# Altium schematic symbol library kmilo17pet-TI_BattMgmt.SchLib: 950 symbols (part 19 of 60)
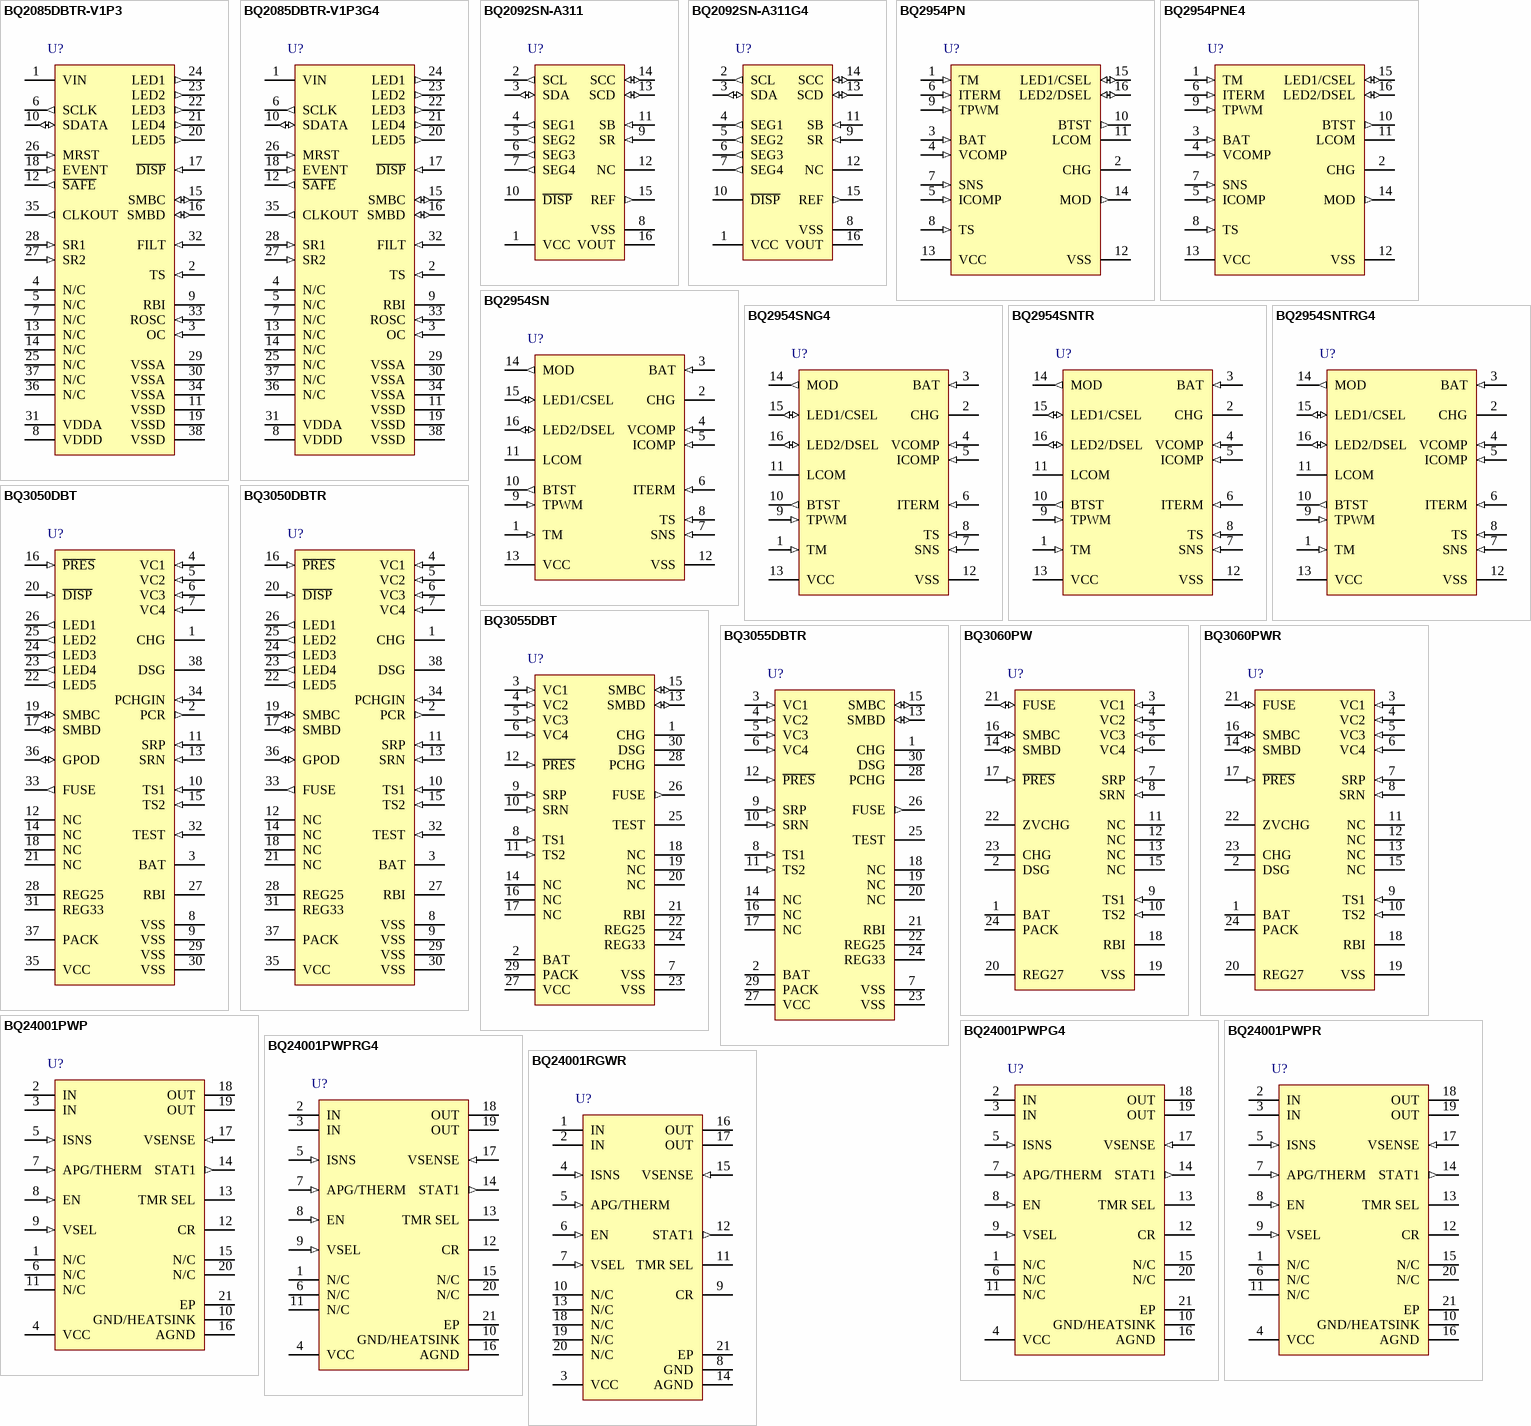
[diagram p52: symbols BQ2085DBTR-V1P3 to BQ24001RGWR]

## BQ24001PWPG4
designator U?
Linear 1 Cell Li-Ion Battery Charger with Integrated FET, One LED, 4.5 V, 0 to 70 degC, 20-pin HTSSOP (PWP), Green (RoHS & no Sb/Br); PartNumber: BQ24001PWPG4; Manufacturer: Texas Instruments; Lead Acid: N; Li-Ion: Y; SubFamily: Battery Charge Management; Vin(Min)(V): 4.5; DatasheetVersion: SLUS462E; PackageVersion: revI, May-2011; PackageReference: PWP20-3005X2005TP; PackageDescription: 20-Pin PowerPAD Plastic Small Outline 6.5 x 4.4 mm Body ,0.65 mm Pitch, Exposed Pad; Supplier 1: Digi-Key; Supplier Part Number 1: BQ24001PWPG4-ND; Supplier Part Number 3: 595-BQ24001PWPG4; Eco-Plan: Green (RoHS & no Sb/Br); Li-Polymer: Y; NiCd: N; NiMH: N; Over Voltage Protection: N; Mounting Technology: Surface Mount; Code_JEDEC: MO-153; ComponentLink1Description: Datasheet; ComponentLink1URL: http://www.ti.com/general/docs/lit/getliterature.tsp?genericPartNumber=BQ24001&fileType=pdf
footprint PWP20-3005X2005TP_N (TSOP, 20-Leads, Body 6.5x4.4mm, Pitch 0.65mm, Thermal Pad 3.7x2.4 mm, IPC Medium Density)
footprint PWP20-3005X2005TP_L (TSOP, 20-Leads, Body 6.5x4.4mm, Pitch 0.65mm, Thermal Pad 3.7x2.4 mm, IPC High Density)
footprint PWP20-3005X2005TP_M (TSOP, 20-Leads, Body 6.5x4.4mm, Pitch 0.65mm, Thermal Pad 3.7x2.4 mm, IPC Low Density)
pins: 1 N/C "No connect. These pins must be left floating. Pin 15 is N/C on bq24001PWP only. Pin 13 is N/C on bq24001RGW only.", 2 IN (power) "Input voltage. This input provides the charging voltage for the battery.", 3 IN (power) "Input voltage. This input provides the charging voltage for the battery.", 4 VCC (power) "Supply voltage", 5 ISNS (in) "Current sense input", 6 N/C "No connect. These pins must be left floating. Pin 15 is N/C on bq24001PWP only. Pin 13 is N/C on bq24001RGW only.", 7 APG/THERM (in) "Adapter power good input/thermistor sense input", 8 EN (in) "Charge-enable input. Active-high enable input with internal pull down. Low-current stand-by mode active when EN is low.", 9 VSEL (in) "4.1 V or 4.2 V charge regulation selection input", 10 GND/HEATSINK (power) "Ground pin; connect to PowerPAD heat-sink layout pattern.", 11 N/C "No connect. These pins must be left floating. Pin 15 is N/C on bq24001PWP only. Pin 13 is N/C on bq24001RGW only.", 12 CR "Internal regulator bypass capacitor", 13 TMR SEL "Charge timer selection input", 14 STAT1 (out) "Status display output 1", 15 N/C "No connect. These pins must be left floating. Pin 15 is N/C on bq24001PWP only. Pin 13 is N/C on bq24001RGW only.", 16 AGND (power) "Ground pin; connect close to the negative battery terminal.", 17 VSENSE (in) "Battery voltage sense input", 18 OUT (power) "Charge current output", 19 OUT (power) "Charge current output", 20 N/C "No connect. These pins must be left floating. Pin 15 is N/C on bq24001PWP only. Pin 13 is N/C on bq24001RGW only.", 21 EP (power) "Exposed pad"

## BQ24001PWPR
designator U?
Linear 1 Cell Li-Ion Battery Charger with Integrated FET, One LED, 4.5 V, 0 to 70 degC, 20-pin HTSSOP (PWP), Green (RoHS & no Sb/Br); PartNumber: BQ24001PWPR; Manufacturer: Texas Instruments; Lead Acid: N; Li-Ion: Y; SubFamily: Battery Charge Management; Vin(Min)(V): 4.5; DatasheetVersion: SLUS462E; PackageVersion: revI, May-2011; PackageReference: PWP20-3005X2005TP; PackageDescription: 20-Pin PowerPAD Plastic Small Outline 6.5 x 4.4 mm Body ,0.65 mm Pitch, Exposed Pad; Supplier 1: Digi-Key; Supplier Part Number 1: BQ24001PWPR-ND; Supplier Part Number 3: 595-BQ24001PWPR; Eco-Plan: Green (RoHS & no Sb/Br); Li-Polymer: Y; NiCd: N; NiMH: N; Over Voltage Protection: N; Mounting Technology: Surface Mount; Code_JEDEC: MO-153; ComponentLink1Description: Datasheet; ComponentLink1URL: http://www.ti.com/general/docs/lit/getliterature.tsp?genericPartNumber=BQ24001&fileType=pdf
footprint PWP20-3005X2005TP_N (TSOP, 20-Leads, Body 6.5x4.4mm, Pitch 0.65mm, Thermal Pad 3.7x2.4 mm, IPC Medium Density)
footprint PWP20-3005X2005TP_L (TSOP, 20-Leads, Body 6.5x4.4mm, Pitch 0.65mm, Thermal Pad 3.7x2.4 mm, IPC High Density)
footprint PWP20-3005X2005TP_M (TSOP, 20-Leads, Body 6.5x4.4mm, Pitch 0.65mm, Thermal Pad 3.7x2.4 mm, IPC Low Density)
pins: 1 N/C "No connect. These pins must be left floating. Pin 15 is N/C on bq24001PWP only. Pin 13 is N/C on bq24001RGW only.", 2 IN (power) "Input voltage. This input provides the charging voltage for the battery.", 3 IN (power) "Input voltage. This input provides the charging voltage for the battery.", 4 VCC (power) "Supply voltage", 5 ISNS (in) "Current sense input", 6 N/C "No connect. These pins must be left floating. Pin 15 is N/C on bq24001PWP only. Pin 13 is N/C on bq24001RGW only.", 7 APG/THERM (in) "Adapter power good input/thermistor sense input", 8 EN (in) "Charge-enable input. Active-high enable input with internal pull down. Low-current stand-by mode active when EN is low.", 9 VSEL (in) "4.1 V or 4.2 V charge regulation selection input", 10 GND/HEATSINK (power) "Ground pin; connect to PowerPAD heat-sink layout pattern.", 11 N/C "No connect. These pins must be left floating. Pin 15 is N/C on bq24001PWP only. Pin 13 is N/C on bq24001RGW only.", 12 CR "Internal regulator bypass capacitor", 13 TMR SEL "Charge timer selection input", 14 STAT1 (out) "Status display output 1", 15 N/C "No connect. These pins must be left floating. Pin 15 is N/C on bq24001PWP only. Pin 13 is N/C on bq24001RGW only.", 16 AGND (power) "Ground pin; connect close to the negative battery terminal.", 17 VSENSE (in) "Battery voltage sense input", 18 OUT (power) "Charge current output", 19 OUT (power) "Charge current output", 20 N/C "No connect. These pins must be left floating. Pin 15 is N/C on bq24001PWP only. Pin 13 is N/C on bq24001RGW only.", 21 EP (power) "Exposed pad"

## BQ24001PWPRG4
designator U?
Linear 1 Cell Li-Ion Battery Charger with Integrated FET, One LED, 4.5 V, 0 to 70 degC, 20-pin HTSSOP (PWP), Green (RoHS & no Sb/Br); PartNumber: BQ24001PWPRG4; Manufacturer: Texas Instruments; Lead Acid: N; Li-Ion: Y; SubFamily: Battery Charge Management; Vin(Min)(V): 4.5; DatasheetVersion: SLUS462E; PackageVersion: revI, May-2011; PackageReference: PWP20-3005X2005TP; PackageDescription: 20-Pin PowerPAD Plastic Small Outline 6.5 x 4.4 mm Body ,0.65 mm Pitch, Exposed Pad; Supplier 1: Digi-Key; Supplier Part Number 1: BQ24001PWPRG4-ND; Supplier Part Number 3: 595-BQ24001PWPRG4; Eco-Plan: Green (RoHS & no Sb/Br); Li-Polymer: Y; NiCd: N; NiMH: N; Over Voltage Protection: N; Mounting Technology: Surface Mount; Code_JEDEC: MO-153; ComponentLink1Description: Datasheet; ComponentLink1URL: http://www.ti.com/general/docs/lit/getliterature.tsp?genericPartNumber=BQ24001&fileType=pdf
footprint PWP20-3005X2005TP_N (TSOP, 20-Leads, Body 6.5x4.4mm, Pitch 0.65mm, Thermal Pad 3.7x2.4 mm, IPC Medium Density)
footprint PWP20-3005X2005TP_L (TSOP, 20-Leads, Body 6.5x4.4mm, Pitch 0.65mm, Thermal Pad 3.7x2.4 mm, IPC High Density)
footprint PWP20-3005X2005TP_M (TSOP, 20-Leads, Body 6.5x4.4mm, Pitch 0.65mm, Thermal Pad 3.7x2.4 mm, IPC Low Density)
pins: 1 N/C "No connect. These pins must be left floating. Pin 15 is N/C on bq24001PWP only. Pin 13 is N/C on bq24001RGW only.", 2 IN (power) "Input voltage. This input provides the charging voltage for the battery.", 3 IN (power) "Input voltage. This input provides the charging voltage for the battery.", 4 VCC (power) "Supply voltage", 5 ISNS (in) "Current sense input", 6 N/C "No connect. These pins must be left floating. Pin 15 is N/C on bq24001PWP only. Pin 13 is N/C on bq24001RGW only.", 7 APG/THERM (in) "Adapter power good input/thermistor sense input", 8 EN (in) "Charge-enable input. Active-high enable input with internal pull down. Low-current stand-by mode active when EN is low.", 9 VSEL (in) "4.1 V or 4.2 V charge regulation selection input", 10 GND/HEATSINK (power) "Ground pin; connect to PowerPAD heat-sink layout pattern.", 11 N/C "No connect. These pins must be left floating. Pin 15 is N/C on bq24001PWP only. Pin 13 is N/C on bq24001RGW only.", 12 CR "Internal regulator bypass capacitor", 13 TMR SEL "Charge timer selection input", 14 STAT1 (out) "Status display output 1", 15 N/C "No connect. These pins must be left floating. Pin 15 is N/C on bq24001PWP only. Pin 13 is N/C on bq24001RGW only.", 16 AGND (power) "Ground pin; connect close to the negative battery terminal.", 17 VSENSE (in) "Battery voltage sense input", 18 OUT (power) "Charge current output", 19 OUT (power) "Charge current output", 20 N/C "No connect. These pins must be left floating. Pin 15 is N/C on bq24001PWP only. Pin 13 is N/C on bq24001RGW only.", 21 EP (power) "Exposed pad"

## BQ24001RGWR
designator U?
Linear 1 Cell Li-Ion Battery Charger with Integrated FET, One LED, 4.5 V, -40 to 70 degC, 20-pin VQFN (RGW), Green (RoHS & no Sb/Br); PartNumber: BQ24001RGWR; Manufacturer: Texas Instruments; Lead Acid: N; Li-Ion: Y; SubFamily: Battery Charge Management; Vin(Min)(V): 4.5; DatasheetVersion: SLUS462E; PackageVersion: revC, Jul-2011; PackageReference: RGW20-3150X3150TP; PackageDescription: 20-Pin Plastic Quad Flat No-Lead, 5 x 5 mm Body, 0.65 mm Pitch, 3.15 x 3.15 mm Exposed Pad; Supplier 1: Digi-Key; Supplier Part Number 1: 296-12968-2-ND; Supplier Part Number 3: 296-12968-6-ND; Eco-Plan: Green (RoHS & no Sb/Br); Li-Polymer: Y; NiCd: N; NiMH: N; Over Voltage Protection: N; Mounting Technology: Surface Mount; Code_JEDEC: MO-220; ComponentLink1Description: Datasheet; ComponentLink1URL: http://www.ti.com/general/docs/lit/getliterature.tsp?genericPartNumber=BQ24001&fileType=pdf
footprint RGW20-3150X3150TP (QFN, 20-Leads, Body 5x5mm, Pitch 0.65mm, Thermal Pad 3.15x3.15mm, TI Recommended)
pins: 1 IN (power) "Input voltage. This input provides the charging voltage for the battery.", 2 IN (power) "Input voltage. This input provides the charging voltage for the battery.", 3 VCC (power) "Supply voltage", 4 ISNS (in) "Current sense input", 5 APG/THERM (in) "Adapter power good input/thermistor sense input", 6 EN (in) "Charge-enable input. Active-high enable input with internal pull down. Low-current stand-by mode active when EN is low.", 7 VSEL (in) "4.1 V or 4.2 V charge regulation selection input", 8 GND (power) "Ground pin; connect to PowerPAD heat-sink layout pattern.", 9 CR "Internal regulator bypass capacitor", 10 N/C "No connect. These pins must be left floating.", 11 TMR SEL "Charge timer selection input", 12 STAT1 (out) "Status display output 1", 13 N/C "No connect. These pins must be left floating. Pin 13 is N/C on bq24001RGW only.", 14 AGND (power) "Ground pin; connect close to the negative battery terminal.", 15 VSENSE (in) "Battery voltage sense input", 16 OUT (power) "Charge current output", 17 OUT (power) "Charge current output", 18 N/C "No connect. These pins must be left floating.", 19 N/C "No connect. These pins must be left floating.", 20 N/C "No connect. These pins must be left floating.", 21 EP (power) "Thermal Pad"

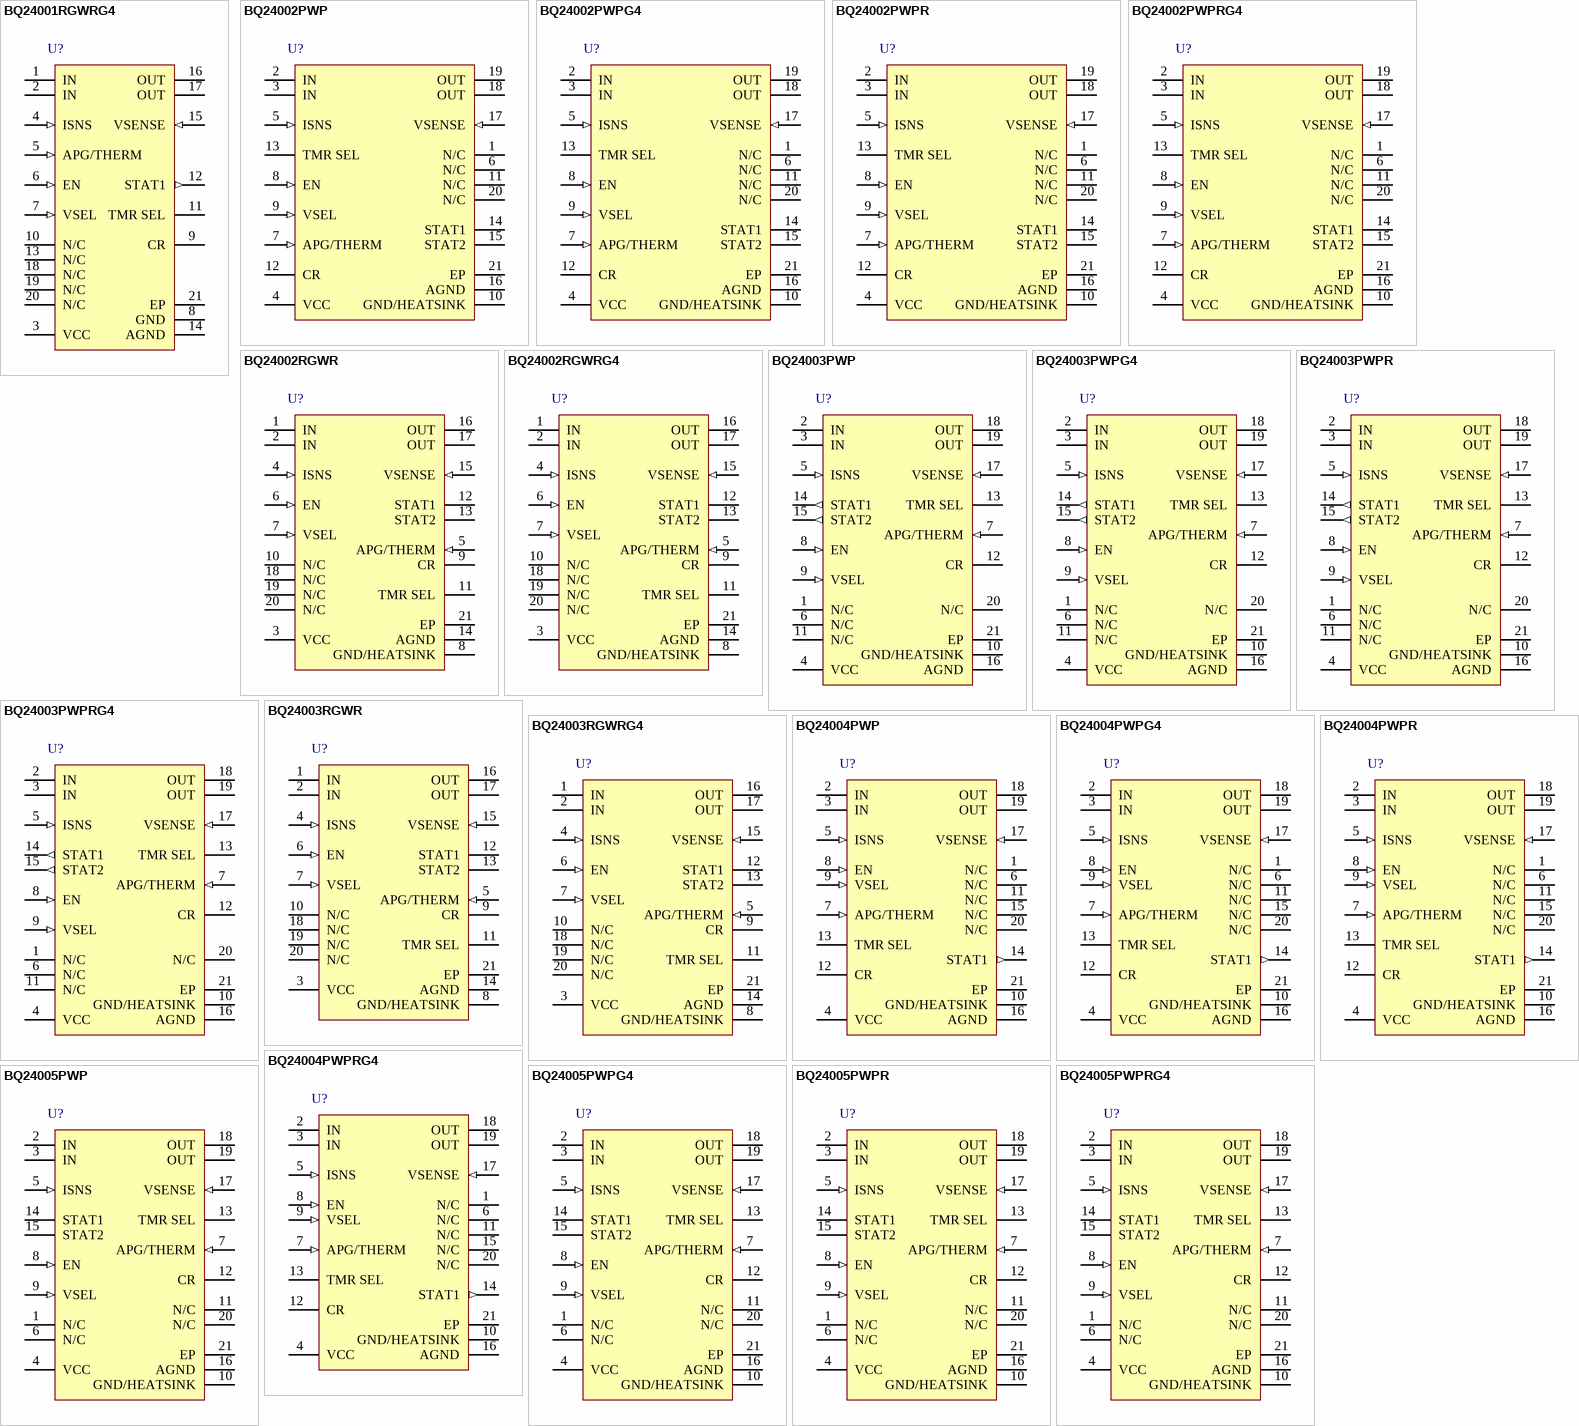
[diagram p11: symbols BQ24001RGWRG4 to BQ24005PWPRG4]

## BQ24001RGWRG4
designator U?
Linear 1 Cell Li-Ion Battery Charger with Integrated FET, One LED, 4.5 V, -40 to 70 degC, 20-pin VQFN (RGW), Green (RoHS & no Sb/Br); PartNumber: BQ24001RGWRG4; Manufacturer: Texas Instruments; Lead Acid: N; Li-Ion: Y; SubFamily: Battery Charge Management; Vin(Min)(V): 4.5; DatasheetVersion: SLUS462E; PackageVersion: revC, Jul-2011; PackageReference: RGW20-3150X3150TP; PackageDescription: 20-Pin Plastic Quad Flat No-Lead, 5 x 5 mm Body, 0.65 mm Pitch, 3.15 x 3.15 mm Exposed Pad; Supplier 1: Digi-Key; Supplier Part Number 1: BQ24001RGWRG4-ND; Supplier Part Number 3: 595-BQ24001RGWRG4; Eco-Plan: Green (RoHS & no Sb/Br); Li-Polymer: Y; NiCd: N; NiMH: N; Over Voltage Protection: N; Mounting Technology: Surface Mount; Code_JEDEC: MO-220; ComponentLink1Description: Datasheet; ComponentLink1URL: http://www.ti.com/general/docs/lit/getliterature.tsp?genericPartNumber=BQ24001&fileType=pdf
footprint RGW20-3150X3150TP (QFN, 20-Leads, Body 5x5mm, Pitch 0.65mm, Thermal Pad 3.15x3.15mm, TI Recommended)
pins: 1 IN (power) "Input voltage. This input provides the charging voltage for the battery.", 2 IN (power) "Input voltage. This input provides the charging voltage for the battery.", 3 VCC (power) "Supply voltage", 4 ISNS (in) "Current sense input", 5 APG/THERM (in) "Adapter power good input/thermistor sense input", 6 EN (in) "Charge-enable input. Active-high enable input with internal pull down. Low-current stand-by mode active when EN is low.", 7 VSEL (in) "4.1 V or 4.2 V charge regulation selection input", 8 GND (power) "Ground pin; connect to PowerPAD heat-sink layout pattern.", 9 CR "Internal regulator bypass capacitor", 10 N/C "No connect. These pins must be left floating.", 11 TMR SEL "Charge timer selection input", 12 STAT1 (out) "Status display output 1", 13 N/C "No connect. These pins must be left floating. Pin 13 is N/C on bq24001RGW only.", 14 AGND (power) "Ground pin; connect close to the negative battery terminal.", 15 VSENSE (in) "Battery voltage sense input", 16 OUT (power) "Charge current output", 17 OUT (power) "Charge current output", 18 N/C "No connect. These pins must be left floating.", 19 N/C "No connect. These pins must be left floating.", 20 N/C "No connect. These pins must be left floating.", 21 EP (power) "Thermal Pad"

## BQ24002PWP
designator U?
Linear 1-Cell Li-Ion Battery Charger with Integrated FET, Two LED, 4.5 V, -20 to 70 degC, 20-pin HTSSOP (PWP), Green (RoHS & no Sb/Br); PartNumber: BQ24002PWP; Manufacturer: Texas Instruments; Lead Acid: N; Li-Ion: Y; SubFamily: Battery Charge Management; Vin(Min)(V): 4.5; DatasheetVersion: SLUS462E; PackageVersion: revI, May-2011; PackageReference: PWP20-3005X2005TP; PackageDescription: 20-Pin PowerPAD Plastic Small Outline 6.5 x 4.4 mm Body ,0.65 mm Pitch, Exposed Pad; Supplier 1: Digi-Key; Supplier Part Number 1: 296-9379-5-ND; Supplier Part Number 3: 595-BQ24002PWP; Eco-Plan: Green (RoHS & no Sb/Br); Li-Polymer: Y; NiCd: N; NiMH: N; Over Voltage Protection: N; Mounting Technology: Surface Mount; Code_JEDEC: MO-153; ComponentLink1Description: Datasheet; ComponentLink1URL: http://www.ti.com/general/docs/lit/getliterature.tsp?genericPartNumber=BQ24002&fileType=pdf
footprint PWP20-3005X2005TP_N (TSOP, 20-Leads, Body 6.5x4.4mm, Pitch 0.65mm, Thermal Pad 3.7x2.4 mm, IPC Medium Density)
footprint PWP20-3005X2005TP_L (TSOP, 20-Leads, Body 6.5x4.4mm, Pitch 0.65mm, Thermal Pad 3.7x2.4 mm, IPC High Density)
footprint PWP20-3005X2005TP_M (TSOP, 20-Leads, Body 6.5x4.4mm, Pitch 0.65mm, Thermal Pad 3.7x2.4 mm, IPC Low Density)
pins: 1 N/C "No connect. These pins must be left floating.", 2 IN (power) "Input voltage. This input provides the charging voltage for the battery.", 3 IN (power) "Input voltage. This input provides the charging voltage for the battery.", 4 VCC (power) "Supply voltage", 5 ISNS (in) "Current sense input", 6 N/C "No connect. These pins must be left floating.", 7 APG/THERM (in) "Adapter power good input/thermistor sense input", 8 EN (in) "Charge-enable input. Active-high enable input with internal pull down. Low-current stand-by mode active when EN is low.", 9 VSEL (in) "4.1 V or 4.2 V charge regulation selection input", 10 GND/HEATSINK (power) "Ground pin; connect to PowerPAD heat-sink layout pattern", 11 N/C "No connect. These pins must be left floating.", 12 CR "Internal regulator bypass capacitor", 13 TMR SEL "Charge timer selection input", 14 STAT1 (oc) "Status display output 1", 15 STAT2 (oc) "Status display output 2 (for bq24002 and bq24003 only)", 16 AGND (power) "Ground pin; connect close to the negative battery terminal", 17 VSENSE (in) "Battery voltage sense input", 18 OUT (power) "Charge current output", 19 OUT (power) "Charge current output", 20 N/C "No connect. These pins must be left floating.", 21 EP (power) "Exposed Thermal Pad"

## BQ24002PWPG4
designator U?
Linear 1-Cell Li-Ion Battery Charger with Integrated FET, Two LED, 4.5 V, -20 to 70 degC, 20-pin HTSSOP (PWP), Green (RoHS & no Sb/Br); PartNumber: BQ24002PWPG4; Manufacturer: Texas Instruments; Lead Acid: N; Li-Ion: Y; SubFamily: Battery Charge Management; Vin(Min)(V): 4.5; DatasheetVersion: SLUS462E; PackageVersion: revI, May-2011; PackageReference: PWP20-3005X2005TP; PackageDescription: 20-Pin PowerPAD Plastic Small Outline 6.5 x 4.4 mm Body ,0.65 mm Pitch, Exposed Pad; Supplier 1: Digi-Key; Supplier Part Number 1: BQ24002PWPG4-ND; Supplier Part Number 3: 43K9061; Eco-Plan: Green (RoHS & no Sb/Br); Li-Polymer: Y; NiCd: N; NiMH: N; Over Voltage Protection: N; Mounting Technology: Surface Mount; Code_JEDEC: MO-153; ComponentLink1Description: Datasheet; ComponentLink1URL: http://www.ti.com/general/docs/lit/getliterature.tsp?genericPartNumber=BQ24002&fileType=pdf
footprint PWP20-3005X2005TP_N (TSOP, 20-Leads, Body 6.5x4.4mm, Pitch 0.65mm, Thermal Pad 3.7x2.4 mm, IPC Medium Density)
footprint PWP20-3005X2005TP_L (TSOP, 20-Leads, Body 6.5x4.4mm, Pitch 0.65mm, Thermal Pad 3.7x2.4 mm, IPC High Density)
footprint PWP20-3005X2005TP_M (TSOP, 20-Leads, Body 6.5x4.4mm, Pitch 0.65mm, Thermal Pad 3.7x2.4 mm, IPC Low Density)
pins: 1 N/C "No connect. These pins must be left floating.", 2 IN (power) "Input voltage. This input provides the charging voltage for the battery.", 3 IN (power) "Input voltage. This input provides the charging voltage for the battery.", 4 VCC (power) "Supply voltage", 5 ISNS (in) "Current sense input", 6 N/C "No connect. These pins must be left floating.", 7 APG/THERM (in) "Adapter power good input/thermistor sense input", 8 EN (in) "Charge-enable input. Active-high enable input with internal pull down. Low-current stand-by mode active when EN is low.", 9 VSEL (in) "4.1 V or 4.2 V charge regulation selection input", 10 GND/HEATSINK (power) "Ground pin; connect to PowerPAD heat-sink layout pattern", 11 N/C "No connect. These pins must be left floating.", 12 CR "Internal regulator bypass capacitor", 13 TMR SEL "Charge timer selection input", 14 STAT1 (oc) "Status display output 1", 15 STAT2 (oc) "Status display output 2 (for bq24002 and bq24003 only)", 16 AGND (power) "Ground pin; connect close to the negative battery terminal", 17 VSENSE (in) "Battery voltage sense input", 18 OUT (power) "Charge current output", 19 OUT (power) "Charge current output", 20 N/C "No connect. These pins must be left floating.", 21 EP (power) "Exposed Thermal Pad"

## BQ24002PWPR
designator U?
Linear 1-Cell Li-Ion Battery Charger with Integrated FET, Two LED, 4.5 V, -20 to 70 degC, 20-pin HTSSOP (PWP), Green (RoHS & no Sb/Br); PartNumber: BQ24002PWPR; Manufacturer: Texas Instruments; Lead Acid: N; Li-Ion: Y; SubFamily: Battery Charge Management; Vin(Min)(V): 4.5; DatasheetVersion: SLUS462E; PackageVersion: revI, May-2011; PackageReference: PWP20-3005X2005TP; PackageDescription: 20-Pin PowerPAD Plastic Small Outline 6.5 x 4.4 mm Body ,0.65 mm Pitch, Exposed Pad; Supplier 1: Digi-Key; Supplier Part Number 1: BQ24002PWPR-ND; Supplier Part Number 3: 595-BQ24002PWPR; Eco-Plan: Green (RoHS & no Sb/Br); Li-Polymer: Y; NiCd: N; NiMH: N; Over Voltage Protection: N; Mounting Technology: Surface Mount; Code_JEDEC: MO-153; ComponentLink1Description: Datasheet; ComponentLink1URL: http://www.ti.com/general/docs/lit/getliterature.tsp?genericPartNumber=BQ24002&fileType=pdf
footprint PWP20-3005X2005TP_N (TSOP, 20-Leads, Body 6.5x4.4mm, Pitch 0.65mm, Thermal Pad 3.7x2.4 mm, IPC Medium Density)
footprint PWP20-3005X2005TP_L (TSOP, 20-Leads, Body 6.5x4.4mm, Pitch 0.65mm, Thermal Pad 3.7x2.4 mm, IPC High Density)
footprint PWP20-3005X2005TP_M (TSOP, 20-Leads, Body 6.5x4.4mm, Pitch 0.65mm, Thermal Pad 3.7x2.4 mm, IPC Low Density)
pins: 1 N/C "No connect. These pins must be left floating.", 2 IN (power) "Input voltage. This input provides the charging voltage for the battery.", 3 IN (power) "Input voltage. This input provides the charging voltage for the battery.", 4 VCC (power) "Supply voltage", 5 ISNS (in) "Current sense input", 6 N/C "No connect. These pins must be left floating.", 7 APG/THERM (in) "Adapter power good input/thermistor sense input", 8 EN (in) "Charge-enable input. Active-high enable input with internal pull down. Low-current stand-by mode active when EN is low.", 9 VSEL (in) "4.1 V or 4.2 V charge regulation selection input", 10 GND/HEATSINK (power) "Ground pin; connect to PowerPAD heat-sink layout pattern", 11 N/C "No connect. These pins must be left floating.", 12 CR "Internal regulator bypass capacitor", 13 TMR SEL "Charge timer selection input", 14 STAT1 (oc) "Status display output 1", 15 STAT2 (oc) "Status display output 2 (for bq24002 and bq24003 only)", 16 AGND (power) "Ground pin; connect close to the negative battery terminal", 17 VSENSE (in) "Battery voltage sense input", 18 OUT (power) "Charge current output", 19 OUT (power) "Charge current output", 20 N/C "No connect. These pins must be left floating.", 21 EP (power) "Exposed Thermal Pad"

## BQ24002PWPRG4
designator U?
Linear 1-Cell Li-Ion Battery Charger with Integrated FET, Two LED, 4.5 V, -20 to 70 degC, 20-pin HTSSOP (PWP), Green (RoHS & no Sb/Br); PartNumber: BQ24002PWPRG4; Manufacturer: Texas Instruments; Lead Acid: N; Li-Ion: Y; SubFamily: Battery Charge Management; Vin(Min)(V): 4.5; DatasheetVersion: SLUS462E; PackageVersion: revI, May-2011; PackageReference: PWP20-3005X2005TP; PackageDescription: 20-Pin PowerPAD Plastic Small Outline 6.5 x 4.4 mm Body ,0.65 mm Pitch, Exposed Pad; Supplier 1: Digi-Key; Supplier Part Number 1: BQ24002PWPRG4-ND; Supplier Part Number 3: 595-BQ24002PWPRG4; Eco-Plan: Green (RoHS & no Sb/Br); Li-Polymer: Y; NiCd: N; NiMH: N; Over Voltage Protection: N; Mounting Technology: Surface Mount; Code_JEDEC: MO-153; ComponentLink1Description: Datasheet; ComponentLink1URL: http://www.ti.com/general/docs/lit/getliterature.tsp?genericPartNumber=BQ24002&fileType=pdf
footprint PWP20-3005X2005TP_N (TSOP, 20-Leads, Body 6.5x4.4mm, Pitch 0.65mm, Thermal Pad 3.7x2.4 mm, IPC Medium Density)
footprint PWP20-3005X2005TP_L (TSOP, 20-Leads, Body 6.5x4.4mm, Pitch 0.65mm, Thermal Pad 3.7x2.4 mm, IPC High Density)
footprint PWP20-3005X2005TP_M (TSOP, 20-Leads, Body 6.5x4.4mm, Pitch 0.65mm, Thermal Pad 3.7x2.4 mm, IPC Low Density)
pins: 1 N/C "No connect. These pins must be left floating.", 2 IN (power) "Input voltage. This input provides the charging voltage for the battery.", 3 IN (power) "Input voltage. This input provides the charging voltage for the battery.", 4 VCC (power) "Supply voltage", 5 ISNS (in) "Current sense input", 6 N/C "No connect. These pins must be left floating.", 7 APG/THERM (in) "Adapter power good input/thermistor sense input", 8 EN (in) "Charge-enable input. Active-high enable input with internal pull down. Low-current stand-by mode active when EN is low.", 9 VSEL (in) "4.1 V or 4.2 V charge regulation selection input", 10 GND/HEATSINK (power) "Ground pin; connect to PowerPAD heat-sink layout pattern", 11 N/C "No connect. These pins must be left floating.", 12 CR "Internal regulator bypass capacitor", 13 TMR SEL "Charge timer selection input", 14 STAT1 (oc) "Status display output 1", 15 STAT2 (oc) "Status display output 2 (for bq24002 and bq24003 only)", 16 AGND (power) "Ground pin; connect close to the negative battery terminal", 17 VSENSE (in) "Battery voltage sense input", 18 OUT (power) "Charge current output", 19 OUT (power) "Charge current output", 20 N/C "No connect. These pins must be left floating.", 21 EP (power) "Exposed Thermal Pad"

## BQ24002RGWR
designator U?
Linear 1-Cell Li-Ion Battery Charger with Integrated FET, Two LED, 4.5 V, -40 to 70 degC, 20-pin VQFN (RGW), Green (RoHS & no Sb/Br); PartNumber: BQ24002RGWR; Manufacturer: Texas Instruments; Lead Acid: N; Li-Ion: Y; SubFamily: Battery Charge Management; Vin(Min)(V): 4.5; DatasheetVersion: SLUS462E; PackageVersion: revI, May-2011; PackageReference: PWP20-3005X2005TP; PackageDescription: 20-Pin PowerPAD Plastic Small Outline 6.5 x 4.4 mm Body ,0.65 mm Pitch, Exposed Pad; Supplier 1: Digi-Key; Supplier Part Number 1: 296-12969-2-ND; Supplier Part Number 3: 296-12969-6-ND; Eco-Plan: Green (RoHS & no Sb/Br); Li-Polymer: Y; NiCd: N; NiMH: N; Over Voltage Protection: N; Mounting Technology: Surface Mount; Code_JEDEC: MO-153; ComponentLink1Description: Datasheet; ComponentLink1URL: http://www.ti.com/general/docs/lit/getliterature.tsp?genericPartNumber=BQ24002&fileType=pdf
footprint PWP20-3005X2005TP_N (TSOP, 20-Leads, Body 6.5x4.4mm, Pitch 0.65mm, Thermal Pad 3.7x2.4 mm, IPC Medium Density)
footprint PWP20-3005X2005TP_L (TSOP, 20-Leads, Body 6.5x4.4mm, Pitch 0.65mm, Thermal Pad 3.7x2.4 mm, IPC High Density)
footprint PWP20-3005X2005TP_M (TSOP, 20-Leads, Body 6.5x4.4mm, Pitch 0.65mm, Thermal Pad 3.7x2.4 mm, IPC Low Density)
pins: 1 IN (power) "Input voltage. This input provides the charging voltage for the battery", 2 IN (power) "Input voltage. This input provides the charging voltage for the battery", 3 VCC (power) "Supply voltage", 4 ISNS (in) "Current sense input", 5 APG/THERM (in) "Adapter power good input/thermistor sense input", 6 EN (in) "Charge-enable input. Active-high enable input with internal pull down. Low-current stand-by mode active when EN is low", 7 VSEL (in) "4.1 V or 4.2 V charge regulation selection input", 8 GND/HEATSINK (power) "Ground pin; connect to PowerPAD heat-sink layout pattern", 9 CR "Internal regulator bypass capacitor", 10 N/C "No connect. These pins must be left floating. Pin 15 is N/C on bq24001PWP only. Pin 13 is N/C on bq24001RGW only", 11 TMR SEL "Charge timer selection input", 12 STAT1 (oc) "Status display output 1", 13 STAT2 (oc) "Status display output 2 (for bq24002 and bq24003 only)", 14 AGND (power) "Ground pin; connect close to the negative battery terminal", 15 VSENSE (in) "Battery voltage sense input", 16 OUT (power) "Charge current output", 17 OUT (power) "Charge current output", 18 N/C "No connect. These pins must be left floating. Pin 15 is N/C on bq24001PWP only. Pin 13 is N/C on bq24001RGW only", 19 N/C "No connect. These pins must be left floating. Pin 15 is N/C on bq24001PWP only. Pin 13 is N/C on bq24001RGW only", 20 N/C "No connect. These pins must be left floating. Pin 15 is N/C on bq24001PWP only. Pin 13 is N/C on bq24001RGW only", 21 EP (power) "Exposed thermal pad"

## BQ24002RGWRG4
designator U?
Linear 1-Cell Li-Ion Battery Charger with Integrated FET, Two LED, 4.5 V, -40 to 70 degC, 20-pin VQFN (RGW), Green (RoHS & no Sb/Br); PartNumber: BQ24002RGWRG4; Manufacturer: Texas Instruments; Lead Acid: N; Li-Ion: Y; SubFamily: Battery Charge Management; Vin(Min)(V): 4.5; DatasheetVersion: SLUS462E; PackageVersion: revC, Jul-2011; PackageReference: RGW20-3150X3150TP; PackageDescription: 20-Pin Plastic Quad Flat No-Lead, 5 x 5 mm Body, 0.65 mm Pitch, 3.15 x 3.15 mm Exposed Pad; Supplier 1: Digi-Key; Supplier Part Number 1: BQ24002RGWRG4-ND; Supplier Part Number 3: 595-BQ24002RGWRG4; Eco-Plan: Green (RoHS & no Sb/Br); Li-Polymer: Y; NiCd: N; NiMH: N; Over Voltage Protection: N; Mounting Technology: Surface Mount; Code_JEDEC: MO-220; ComponentLink1Description: Datasheet; ComponentLink1URL: http://www.ti.com/general/docs/lit/getliterature.tsp?genericPartNumber=BQ24002&fileType=pdf
footprint RGW20-3150X3150TP (QFN, 20-Leads, Body 5x5mm, Pitch 0.65mm, Thermal Pad 3.15x3.15mm, TI Recommended)
pins: 1 IN (power) "Input voltage. This input provides the charging voltage for the battery", 2 IN (power) "Input voltage. This input provides the charging voltage for the battery", 3 VCC (power) "Supply voltage", 4 ISNS (in) "Current sense input", 5 APG/THERM (in) "Adapter power good input/thermistor sense input", 6 EN (in) "Charge-enable input. Active-high enable input with internal pull down. Low-current stand-by mode active when EN is low", 7 VSEL (in) "4.1 V or 4.2 V charge regulation selection input", 8 GND/HEATSINK (power) "Ground pin; connect to PowerPAD heat-sink layout pattern", 9 CR "Internal regulator bypass capacitor", 10 N/C "No connect. These pins must be left floating. Pin 15 is N/C on bq24001PWP only. Pin 13 is N/C on bq24001RGW only", 11 TMR SEL "Charge timer selection input", 12 STAT1 (oc) "Status display output 1", 13 STAT2 (oc) "Status display output 2 (for bq24002 and bq24003 only)", 14 AGND (power) "Ground pin; connect close to the negative battery terminal", 15 VSENSE (in) "Battery voltage sense input", 16 OUT (power) "Charge current output", 17 OUT (power) "Charge current output", 18 N/C "No connect. These pins must be left floating. Pin 15 is N/C on bq24001PWP only. Pin 13 is N/C on bq24001RGW only", 19 N/C "No connect. These pins must be left floating. Pin 15 is N/C on bq24001PWP only. Pin 13 is N/C on bq24001RGW only", 20 N/C "No connect. These pins must be left floating. Pin 15 is N/C on bq24001PWP only. Pin 13 is N/C on bq24001RGW only", 21 EP (power) "Exposed thermal pad"

## BQ24003PWP
designator U?
Linear 1-Cell Li-Ion Battery Charger with Integrated FET, Bi-Color LED, 4.5 V, 0 to 70 degC, 20-pin HTSSOP (PWP), Green (RoHS & no Sb/Br); PartNumber: BQ24003PWP; Manufacturer: Texas Instruments; Lead Acid: N; Li-Ion: Y; SubFamily: Battery Charge Management; Vin(Min)(V): 4.5; DatasheetVersion: SLUS462E; PackageVersion: revI, May-2011; PackageReference: PWP20-3005X2005TP; PackageDescription: 20-Pin PowerPAD Plastic Small Outline 6.5 x 4.4 mm Body ,0.65 mm Pitch, Exposed Pad; Supplier 1: Digi-Key; Supplier Part Number 1: 296-9380-5-ND; Supplier Part Number 3: 595-BQ24003PWP; Eco-Plan: Green (RoHS & no Sb/Br); Li-Polymer: Y; NiCd: N; NiMH: N; Over Voltage Protection: N; Mounting Technology: Surface Mount; Code_JEDEC: MO-153; ComponentLink1Description: Datasheet; ComponentLink1URL: http://www.ti.com/general/docs/lit/getliterature.tsp?genericPartNumber=BQ24003&fileType=pdf
footprint PWP20-3005X2005TP_N (TSOP, 20-Leads, Body 6.5x4.4mm, Pitch 0.65mm, Thermal Pad 3.7x2.4 mm, IPC Medium Density)
footprint PWP20-3005X2005TP_L (TSOP, 20-Leads, Body 6.5x4.4mm, Pitch 0.65mm, Thermal Pad 3.7x2.4 mm, IPC High Density)
footprint PWP20-3005X2005TP_M (TSOP, 20-Leads, Body 6.5x4.4mm, Pitch 0.65mm, Thermal Pad 3.7x2.4 mm, IPC Low Density)
pins: 1 N/C "No connect. These pins must be left floating. Pin 15 is N/C on bq24001PWP only. Pin 13 is N/C on bq24001RGW only.", 2 IN (power) "Input voltage. This input provides the charging voltage for the battery.", 3 IN (power) "Input voltage. This input provides the charging voltage for the battery.", 4 VCC (power) "Supply voltage", 5 ISNS (in) "Current sense input", 6 N/C "No connect. These pins must be left floating. Pin 15 is N/C on bq24001PWP only. Pin 13 is N/C on bq24001RGW only.", 7 APG/THERM (in) "Adapter power good input/thermistor sense input", 8 EN (in) "Charge-enable input. Active-high enable input with internal pull down. Low-current stand-by mode active when EN is low.", 9 VSEL (in) "4.1 V or 4.2 V charge regulation selection input", 10 GND/HEATSINK (power) "Ground pin; connect to PowerPAD heat-sink layout pattern.", 11 N/C "No connect. These pins must be left floating. Pin 15 is N/C on bq24001PWP only. Pin 13 is N/C on bq24001RGW only.", 12 CR "Internal regulator bypass capacitor", 13 TMR SEL "Charge timer selection input", 14 STAT1 (out) "Status display output 1", 15 STAT2 (out) "Status display output 2 (for bq24002 and bq24003 only)", 16 AGND (power) "Ground pin; connect close to the negative battery terminal.", 17 VSENSE (in) "Battery voltage sense input", 18 OUT (power) "Charge current output", 19 OUT (power) "Charge current output", 20 N/C "No connect. These pins must be left floating. Pin 15 is N/C on bq24001PWP only. Pin 13 is N/C on bq24001RGW only.", 21 EP (power) "Exposed pad"

## BQ24003PWPG4
designator U?
Linear 1-Cell Li-Ion Battery Charger with Integrated FET, Bi-Color LED, 4.5 V, 0 to 70 degC, 20-pin HTSSOP (PWP), Green (RoHS & no Sb/Br); PartNumber: BQ24003PWPG4; Manufacturer: Texas Instruments; Lead Acid: N; Li-Ion: Y; SubFamily: Battery Charge Management; Vin(Min)(V): 4.5; DatasheetVersion: SLUS462E; PackageVersion: revI, May-2011; PackageReference: PWP20-3005X2005TP; PackageDescription: 20-Pin PowerPAD Plastic Small Outline 6.5 x 4.4 mm Body ,0.65 mm Pitch, Exposed Pad; Supplier 1: Digi-Key; Supplier Part Number 1: BQ24003PWPG4-ND; Supplier Part Number 3: 595-BQ24003PWPG4; Eco-Plan: Green (RoHS & no Sb/Br); Li-Polymer: Y; NiCd: N; NiMH: N; Over Voltage Protection: N; Mounting Technology: Surface Mount; Code_JEDEC: MO-153; ComponentLink1Description: Datasheet; ComponentLink1URL: http://www.ti.com/general/docs/lit/getliterature.tsp?genericPartNumber=BQ24003&fileType=pdf
footprint PWP20-3005X2005TP_N (TSOP, 20-Leads, Body 6.5x4.4mm, Pitch 0.65mm, Thermal Pad 3.7x2.4 mm, IPC Medium Density)
footprint PWP20-3005X2005TP_L (TSOP, 20-Leads, Body 6.5x4.4mm, Pitch 0.65mm, Thermal Pad 3.7x2.4 mm, IPC High Density)
footprint PWP20-3005X2005TP_M (TSOP, 20-Leads, Body 6.5x4.4mm, Pitch 0.65mm, Thermal Pad 3.7x2.4 mm, IPC Low Density)
pins: 1 N/C "No connect. These pins must be left floating. Pin 15 is N/C on bq24001PWP only. Pin 13 is N/C on bq24001RGW only.", 2 IN (power) "Input voltage. This input provides the charging voltage for the battery.", 3 IN (power) "Input voltage. This input provides the charging voltage for the battery.", 4 VCC (power) "Supply voltage", 5 ISNS (in) "Current sense input", 6 N/C "No connect. These pins must be left floating. Pin 15 is N/C on bq24001PWP only. Pin 13 is N/C on bq24001RGW only.", 7 APG/THERM (in) "Adapter power good input/thermistor sense input", 8 EN (in) "Charge-enable input. Active-high enable input with internal pull down. Low-current stand-by mode active when EN is low.", 9 VSEL (in) "4.1 V or 4.2 V charge regulation selection input", 10 GND/HEATSINK (power) "Ground pin; connect to PowerPAD heat-sink layout pattern.", 11 N/C "No connect. These pins must be left floating. Pin 15 is N/C on bq24001PWP only. Pin 13 is N/C on bq24001RGW only.", 12 CR "Internal regulator bypass capacitor", 13 TMR SEL "Charge timer selection input", 14 STAT1 (out) "Status display output 1", 15 STAT2 (out) "Status display output 2 (for bq24002 and bq24003 only)", 16 AGND (power) "Ground pin; connect close to the negative battery terminal.", 17 VSENSE (in) "Battery voltage sense input", 18 OUT (power) "Charge current output", 19 OUT (power) "Charge current output", 20 N/C "No connect. These pins must be left floating. Pin 15 is N/C on bq24001PWP only. Pin 13 is N/C on bq24001RGW only.", 21 EP (power) "Exposed pad"

## BQ24003PWPR
designator U?
Linear 1-Cell Li-Ion Battery Charger with Integrated FET, Bi-Color LED, 4.5 V, 0 to 70 degC, 20-pin HTSSOP (PWP), Green (RoHS & no Sb/Br); PartNumber: BQ24003PWPR; Manufacturer: Texas Instruments; Lead Acid: N; Li-Ion: Y; SubFamily: Battery Charge Management; Vin(Min)(V): 4.5; DatasheetVersion: SLUS462E; PackageVersion: revI, May-2011; PackageReference: PWP20-3005X2005TP; PackageDescription: 20-Pin PowerPAD Plastic Small Outline 6.5 x 4.4 mm Body ,0.65 mm Pitch, Exposed Pad; Supplier 1: Digi-Key; Supplier Part Number 1: BQ24003PWPR-ND; Supplier Part Number 3: 595-BQ24003PWPR; Eco-Plan: Green (RoHS & no Sb/Br); Li-Polymer: Y; NiCd: N; NiMH: N; Over Voltage Protection: N; Mounting Technology: Surface Mount; Code_JEDEC: MO-153; ComponentLink1Description: Datasheet; ComponentLink1URL: http://www.ti.com/general/docs/lit/getliterature.tsp?genericPartNumber=BQ24003&fileType=pdf
footprint PWP20-3005X2005TP_N (TSOP, 20-Leads, Body 6.5x4.4mm, Pitch 0.65mm, Thermal Pad 3.7x2.4 mm, IPC Medium Density)
footprint PWP20-3005X2005TP_L (TSOP, 20-Leads, Body 6.5x4.4mm, Pitch 0.65mm, Thermal Pad 3.7x2.4 mm, IPC High Density)
footprint PWP20-3005X2005TP_M (TSOP, 20-Leads, Body 6.5x4.4mm, Pitch 0.65mm, Thermal Pad 3.7x2.4 mm, IPC Low Density)
pins: 1 N/C "No connect. These pins must be left floating. Pin 15 is N/C on bq24001PWP only. Pin 13 is N/C on bq24001RGW only.", 2 IN (power) "Input voltage. This input provides the charging voltage for the battery.", 3 IN (power) "Input voltage. This input provides the charging voltage for the battery.", 4 VCC (power) "Supply voltage", 5 ISNS (in) "Current sense input", 6 N/C "No connect. These pins must be left floating. Pin 15 is N/C on bq24001PWP only. Pin 13 is N/C on bq24001RGW only.", 7 APG/THERM (in) "Adapter power good input/thermistor sense input", 8 EN (in) "Charge-enable input. Active-high enable input with internal pull down. Low-current stand-by mode active when EN is low.", 9 VSEL (in) "4.1 V or 4.2 V charge regulation selection input", 10 GND/HEATSINK (power) "Ground pin; connect to PowerPAD heat-sink layout pattern.", 11 N/C "No connect. These pins must be left floating. Pin 15 is N/C on bq24001PWP only. Pin 13 is N/C on bq24001RGW only.", 12 CR "Internal regulator bypass capacitor", 13 TMR SEL "Charge timer selection input", 14 STAT1 (out) "Status display output 1", 15 STAT2 (out) "Status display output 2 (for bq24002 and bq24003 only)", 16 AGND (power) "Ground pin; connect close to the negative battery terminal.", 17 VSENSE (in) "Battery voltage sense input", 18 OUT (power) "Charge current output", 19 OUT (power) "Charge current output", 20 N/C "No connect. These pins must be left floating. Pin 15 is N/C on bq24001PWP only. Pin 13 is N/C on bq24001RGW only.", 21 EP (power) "Exposed pad"

## BQ24003PWPRG4
designator U?
Linear 1-Cell Li-Ion Battery Charger with Integrated FET, Bi-Color LED, 4.5 V, 0 to 70 degC, 20-pin HTSSOP (PWP), Green (RoHS & no Sb/Br); PartNumber: BQ24003PWPRG4; Manufacturer: Texas Instruments; Lead Acid: N; Li-Ion: Y; SubFamily: Battery Charge Management; Vin(Min)(V): 4.5; DatasheetVersion: SLUS462E; PackageVersion: revI, May-2011; PackageReference: PWP20-3005X2005TP; PackageDescription: 20-Pin PowerPAD Plastic Small Outline 6.5 x 4.4 mm Body ,0.65 mm Pitch, Exposed Pad; Supplier 1: Digi-Key; Supplier Part Number 1: BQ24003PWPRG4-ND; Supplier Part Number 3: 595-BQ24003PWPRG4; Eco-Plan: Green (RoHS & no Sb/Br); Li-Polymer: Y; NiCd: N; NiMH: N; Over Voltage Protection: N; Mounting Technology: Surface Mount; Code_JEDEC: MO-153; ComponentLink1Description: Datasheet; ComponentLink1URL: http://www.ti.com/general/docs/lit/getliterature.tsp?genericPartNumber=BQ24003&fileType=pdf
footprint PWP20-3005X2005TP_N (TSOP, 20-Leads, Body 6.5x4.4mm, Pitch 0.65mm, Thermal Pad 3.7x2.4 mm, IPC Medium Density)
footprint PWP20-3005X2005TP_L (TSOP, 20-Leads, Body 6.5x4.4mm, Pitch 0.65mm, Thermal Pad 3.7x2.4 mm, IPC High Density)
footprint PWP20-3005X2005TP_M (TSOP, 20-Leads, Body 6.5x4.4mm, Pitch 0.65mm, Thermal Pad 3.7x2.4 mm, IPC Low Density)
pins: 1 N/C "No connect. These pins must be left floating. Pin 15 is N/C on bq24001PWP only. Pin 13 is N/C on bq24001RGW only.", 2 IN (power) "Input voltage. This input provides the charging voltage for the battery.", 3 IN (power) "Input voltage. This input provides the charging voltage for the battery.", 4 VCC (power) "Supply voltage", 5 ISNS (in) "Current sense input", 6 N/C "No connect. These pins must be left floating. Pin 15 is N/C on bq24001PWP only. Pin 13 is N/C on bq24001RGW only.", 7 APG/THERM (in) "Adapter power good input/thermistor sense input", 8 EN (in) "Charge-enable input. Active-high enable input with internal pull down. Low-current stand-by mode active when EN is low.", 9 VSEL (in) "4.1 V or 4.2 V charge regulation selection input", 10 GND/HEATSINK (power) "Ground pin; connect to PowerPAD heat-sink layout pattern.", 11 N/C "No connect. These pins must be left floating. Pin 15 is N/C on bq24001PWP only. Pin 13 is N/C on bq24001RGW only.", 12 CR "Internal regulator bypass capacitor", 13 TMR SEL "Charge timer selection input", 14 STAT1 (out) "Status display output 1", 15 STAT2 (out) "Status display output 2 (for bq24002 and bq24003 only)", 16 AGND (power) "Ground pin; connect close to the negative battery terminal.", 17 VSENSE (in) "Battery voltage sense input", 18 OUT (power) "Charge current output", 19 OUT (power) "Charge current output", 20 N/C "No connect. These pins must be left floating. Pin 15 is N/C on bq24001PWP only. Pin 13 is N/C on bq24001RGW only.", 21 EP (power) "Exposed pad"

## BQ24003RGWR
designator U?
Linear 1-Cell Li-Ion Battery Charger with Integrated FET, Bi-Color LED, 4.5 V, -40 to 70 degC, 20-pin VQFN (RGW), Green (RoHS & no Sb/Br); PartNumber: BQ24003RGWR; Manufacturer: Texas Instruments; Lead Acid: N; Li-Ion: Y; SubFamily: Battery Charge Management; Vin(Min)(V): 4.5; DatasheetVersion: SLUS462E; PackageVersion: revC, Jul-2011; PackageReference: RGW20-3150X3150TP; PackageDescription: 20-Pin Plastic Quad Flat No-Lead, 5 x 5 mm Body, 0.65 mm Pitch, 3.15 x 3.15 mm Exposed Pad; Supplier 1: Digi-Key; Supplier Part Number 1: 296-12970-2-ND; Supplier Part Number 3: 296-12970-6-ND; Eco-Plan: Green (RoHS & no Sb/Br); Li-Polymer: Y; NiCd: N; NiMH: N; Over Voltage Protection: N; Mounting Technology: Surface Mount; Code_JEDEC: MO-220; ComponentLink1Description: Datasheet; ComponentLink1URL: http://www.ti.com/general/docs/lit/getliterature.tsp?genericPartNumber=BQ24003&fileType=pdf
footprint RGW20-3150X3150TP (QFN, 20-Leads, Body 5x5mm, Pitch 0.65mm, Thermal Pad 3.15x3.15mm, TI Recommended)
pins: 1 IN (power) "Input voltage. This input provides the charging voltage for the battery.", 2 IN (power) "Input voltage. This input provides the charging voltage for the battery.", 3 VCC (power) "Supply voltage", 4 ISNS (in) "Current sense input", 5 APG/THERM (in) "Adapter power good input/thermistor sense input", 6 EN (in) "Charge-enable input. Active-high enable input with internal pull down. Low-current stand-by mode active when EN is low.", 7 VSEL (in) "4.1 V or 4.2 V charge regulation selection input", 8 GND/HEATSINK (power) "Ground pin; connect to PowerPAD heat-sink layout pattern.", 9 CR "Internal regulator bypass capacitor", 10 N/C "No connect. These pins must be left floating.", 11 TMR SEL "Charge timer selection input", 12 STAT1 (oc) "Status display output 1", 13 STAT2 (oc) "Status display output 2", 14 AGND (power) "Ground pin; connect close to the negative battery terminal.", 15 VSENSE (in) "Battery voltage sense input", 16 OUT (power) "Charge current output", 17 OUT (power) "Charge current output", 18 N/C "No connect. These pins must be left floating.", 19 N/C "No connect. These pins must be left floating.", 20 N/C "No connect. These pins must be left floating.", 21 EP "Exposed thermal pad"

## BQ24003RGWRG4
designator U?
Linear 1-Cell Li-Ion Battery Charger with Integrated FET, Bi-Color LED, 4.5 V, -40 to 70 degC, 20-pin VQFN (RGW), Green (RoHS & no Sb/Br); PartNumber: BQ24003RGWRG4; Manufacturer: Texas Instruments; Lead Acid: N; Li-Ion: Y; SubFamily: Battery Charge Management; Vin(Min)(V): 4.5; DatasheetVersion: SLUS462E; PackageVersion: revC, Jul-2011; PackageReference: RGW20-3150X3150TP; PackageDescription: 20-Pin Plastic Quad Flat No-Lead, 5 x 5 mm Body, 0.65 mm Pitch, 3.15 x 3.15 mm Exposed Pad; Supplier 1: Digi-Key; Supplier Part Number 1: BQ24003RGWRG4-ND; Supplier Part Number 3: 595-BQ24003RGWRG4; Eco-Plan: Green (RoHS & no Sb/Br); Li-Polymer: Y; NiCd: N; NiMH: N; Over Voltage Protection: N; Mounting Technology: Surface Mount; Code_JEDEC: MO-220; ComponentLink1Description: Datasheet; ComponentLink1URL: http://www.ti.com/general/docs/lit/getliterature.tsp?genericPartNumber=BQ24003&fileType=pdf
footprint RGW20-3150X3150TP (QFN, 20-Leads, Body 5x5mm, Pitch 0.65mm, Thermal Pad 3.15x3.15mm, TI Recommended)
pins: 1 IN (power) "Input voltage. This input provides the charging voltage for the battery.", 2 IN (power) "Input voltage. This input provides the charging voltage for the battery.", 3 VCC (power) "Supply voltage", 4 ISNS (in) "Current sense input", 5 APG/THERM (in) "Adapter power good input/thermistor sense input", 6 EN (in) "Charge-enable input. Active-high enable input with internal pull down. Low-current stand-by mode active when EN is low.", 7 VSEL (in) "4.1 V or 4.2 V charge regulation selection input", 8 GND/HEATSINK (power) "Ground pin; connect to PowerPAD heat-sink layout pattern.", 9 CR "Internal regulator bypass capacitor", 10 N/C "No connect. These pins must be left floating.", 11 TMR SEL "Charge timer selection input", 12 STAT1 (oc) "Status display output 1", 13 STAT2 (oc) "Status display output 2", 14 AGND (power) "Ground pin; connect close to the negative battery terminal.", 15 VSENSE (in) "Battery voltage sense input", 16 OUT (power) "Charge current output", 17 OUT (power) "Charge current output", 18 N/C "No connect. These pins must be left floating.", 19 N/C "No connect. These pins must be left floating.", 20 N/C "No connect. These pins must be left floating.", 21 EP "Exposed thermal pad"

## BQ24004PWP
designator U?
Linear 2-Cell Li-Ion Battery Charger with Integrated FET, One LED, 4.5 V, 0 to 70 degC, 20-pin HTSSOP (PWP), Green (RoHS & no Sb/Br); PartNumber: BQ24004PWP; Manufacturer: Texas Instruments; Lead Acid: N; Li-Ion: Y; SubFamily: Battery Charge Management; Vin(Min)(V): 4.5; DatasheetVersion: SLUS476F; PackageVersion: revI, May-2011; PackageReference: PWP20-3005X2005TP; PackageDescription: 20-Pin PowerPAD Plastic Small Outline 6.5 x 4.4 mm Body ,0.65 mm Pitch, Exposed Pad; Supplier 1: Digi-Key; Supplier Part Number 1: 296-9381-5-ND; Supplier Part Number 3: 595-BQ24004PWP; Eco-Plan: Green (RoHS & no Sb/Br); Li-Polymer: Y; NiCd: N; NiMH: N; Over Voltage Protection: N; Mounting Technology: Surface Mount; Code_JEDEC: MO-153; ComponentLink1Description: Datasheet; ComponentLink1URL: http://www.ti.com/general/docs/lit/getliterature.tsp?genericPartNumber=BQ24004&fileType=pdf
footprint PWP20-3005X2005TP_N (TSOP, 20-Leads, Body 6.5x4.4mm, Pitch 0.65mm, Thermal Pad 3.7x2.4 mm, IPC Medium Density)
footprint PWP20-3005X2005TP_L (TSOP, 20-Leads, Body 6.5x4.4mm, Pitch 0.65mm, Thermal Pad 3.7x2.4 mm, IPC High Density)
footprint PWP20-3005X2005TP_M (TSOP, 20-Leads, Body 6.5x4.4mm, Pitch 0.65mm, Thermal Pad 3.7x2.4 mm, IPC Low Density)
pins: 1 N/C "No connect. These pins must be left floating", 2 IN (power) "Input voltage. This input provides the charging voltage for the battery.", 3 IN (power) "Input voltage. This input provides the charging voltage for the battery.", 4 VCC (power) "Supply voltage", 5 ISNS (in) "Current sense input", 6 N/C "No connect. These pins must be left floating", 7 APG/THERM (in) "Adapter power good input/thermistor sense input", 8 EN (in) "Charge-enable input. Active-high enable input with internal pull down. Low-current stand-by mode active when EN is low.", 9 VSEL (in) "8.2-V or 8.4-V charge regulation selection input", 10 GND/HEATSINK (power) "Ground pin; connect to PowerPAD heat-sink layout pattern.", 11 N/C "No connect. These pins must be left floating", 12 CR "Internal regulator bypass capacitor", 13 TMR SEL "Charge timer selection input", 14 STAT1 (out) "Status display output 1", 15 N/C "No connect. These pins must be left floating", 16 AGND (power) "Ground pin; connect close to the negative battery terminal.", 17 VSENSE (in) "Battery voltage sense input", 18 OUT (power) "Charge current output", 19 OUT (power) "Charge current output", 20 N/C "No connect. These pins must be left floating", 21 EP (power) "Exposed Thermal Pad"

## BQ24004PWPG4
designator U?
Linear 2-Cell Li-Ion Battery Charger with Integrated FET, One LED, 4.5 V, 0 to 70 degC, 20-pin HTSSOP (PWP), Green (RoHS & no Sb/Br); PartNumber: BQ24004PWPG4; Manufacturer: Texas Instruments; Lead Acid: N; Li-Ion: Y; SubFamily: Battery Charge Management; Vin(Min)(V): 4.5; DatasheetVersion: SLUS476F; PackageVersion: revI, May-2011; PackageReference: PWP20-3005X2005TP; PackageDescription: 20-Pin PowerPAD Plastic Small Outline 6.5 x 4.4 mm Body ,0.65 mm Pitch, Exposed Pad; Supplier 1: Digi-Key; Supplier Part Number 1: BQ24004PWPG4-ND; Supplier Part Number 3: 595-BQ24004PWPG4; Eco-Plan: Green (RoHS & no Sb/Br); Li-Polymer: Y; NiCd: N; NiMH: N; Over Voltage Protection: N; Mounting Technology: Surface Mount; Code_JEDEC: MO-153; ComponentLink1Description: Datasheet; ComponentLink1URL: http://www.ti.com/general/docs/lit/getliterature.tsp?genericPartNumber=BQ24004&fileType=pdf
footprint PWP20-3005X2005TP_N (TSOP, 20-Leads, Body 6.5x4.4mm, Pitch 0.65mm, Thermal Pad 3.7x2.4 mm, IPC Medium Density)
footprint PWP20-3005X2005TP_L (TSOP, 20-Leads, Body 6.5x4.4mm, Pitch 0.65mm, Thermal Pad 3.7x2.4 mm, IPC High Density)
footprint PWP20-3005X2005TP_M (TSOP, 20-Leads, Body 6.5x4.4mm, Pitch 0.65mm, Thermal Pad 3.7x2.4 mm, IPC Low Density)
pins: 1 N/C "No connect. These pins must be left floating", 2 IN (power) "Input voltage. This input provides the charging voltage for the battery.", 3 IN (power) "Input voltage. This input provides the charging voltage for the battery.", 4 VCC (power) "Supply voltage", 5 ISNS (in) "Current sense input", 6 N/C "No connect. These pins must be left floating", 7 APG/THERM (in) "Adapter power good input/thermistor sense input", 8 EN (in) "Charge-enable input. Active-high enable input with internal pull down. Low-current stand-by mode active when EN is low.", 9 VSEL (in) "8.2-V or 8.4-V charge regulation selection input", 10 GND/HEATSINK (power) "Ground pin; connect to PowerPAD heat-sink layout pattern.", 11 N/C "No connect. These pins must be left floating", 12 CR "Internal regulator bypass capacitor", 13 TMR SEL "Charge timer selection input", 14 STAT1 (out) "Status display output 1", 15 N/C "No connect. These pins must be left floating", 16 AGND (power) "Ground pin; connect close to the negative battery terminal.", 17 VSENSE (in) "Battery voltage sense input", 18 OUT (power) "Charge current output", 19 OUT (power) "Charge current output", 20 N/C "No connect. These pins must be left floating", 21 EP (power) "Exposed Thermal Pad"